# EAGLE library part 1-1825059-2 (library Switches)
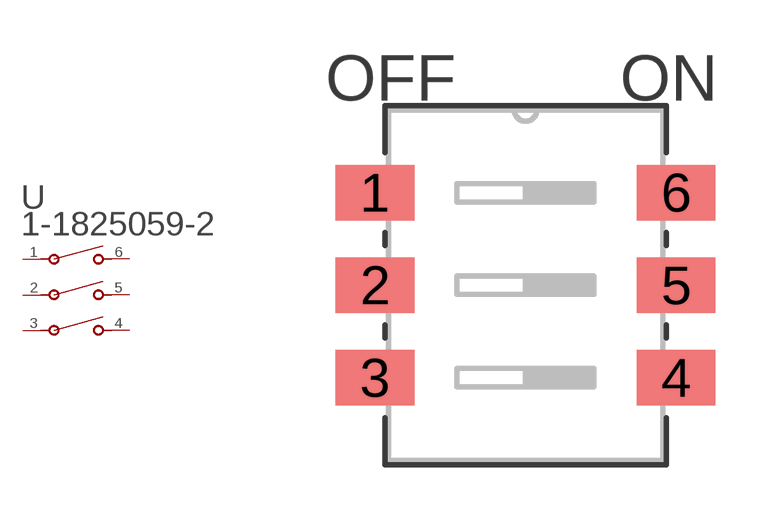
[diagram p0: symbol with the pads of SWSO6_325X138P100; footprint SWSO6_325X138P100]

Designator prefix U

## 1-1825059-2 (BUILT_BY: EMA_UL_Team; CATEGORY: DIP & SIP Switches; COPYRIGHT: Copyright (C) 2016 Accelerated Designs. All rights reserved; DESCRIPTION: ADF03STTR04=DIP S,FLUSH,SMT-GW; MANUFACTURER_PART_NUMBER: 1-1825059-2; PART_STATUS: active; SERIES: Alcoswitch DIP,Alcoswitch DIP ADF; VENDOR: TE Connectivity)  [SWSO6_325X138P100]
1  1  pas
2  2  pas
3  3  pas
4  4  pas
5  5  pas
6  6  pas

## Footprint SWSO6_325X138P100 (pad centres in mm)
smd 2.159 x 1.524: 1 -4.128,2.54; 2 -4.128,0; 3 -4.128,-2.54; 4 4.128,-2.54; 5 4.128,0; 6 4.128,2.54